# Altium schematic symbol library Regulator Linear LM317 LM337.SchLib: 9 symbols
Pins are listed as number, name and electrical type; pins without a type are passive.

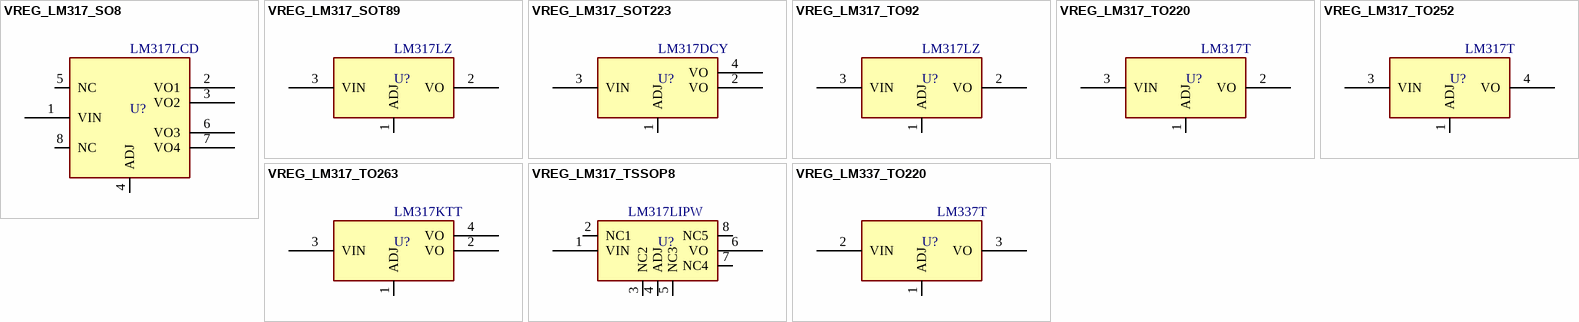
[diagram p0: symbols VREG_LM317_SO8 to VREG_LM337_TO220]

## VREG_LM317_SO8
designator U?, comment LM317LCD
REG, Linear, Adjustable, 0.1A, SO-8; MANF_P#: LM317LCDR, LM317LD13TR, LM317LMX, LM317LBDG; MANF: TI, ST, ON; PARAM: 0.1A; PARAM2: PARAM2; VALUE: LM317LCD
footprint SO_8
pins: 1 VIN, 2 VO1, 3 VO2, 4 ADJ, 5 NC, 6 VO3, 7 VO4, 8 NC

## VREG_LM317_SOT89
designator U?, comment LM317LZ
REG, Linear, Adjustable, 0.1A, SOT-89; MANF_P#: LM317LIPK, LM317LCPK; MANF: TI; PARAM: 0.1A; PARAM2: PARAM2; VALUE: LM317LZ
footprint SOT89_3 (SOT89, SOT-89, SBF-4089, SOT89A, GALI, SC-62, DF782, TO-243AA(JEDEC))
pins: 1 ADJ, 2 VO, 3 VIN

## VREG_LM317_SOT223
designator U?, comment LM317DCY
REG, Linear, Adjustable, 0.5A, SOT-223; MANF_P#: LM317DCY, LM317MBSTT3G; MANF: TI, ON; PARAM: 0.5A; PARAM2: PARAM2; VALUE: LM317DCY
footprint SOT223_4 (SOT223, 4-Leads, Body 6.5x3.5mm, Pitch 2.30mm)
pins: 1 ADJ, 2 VO, 3 VIN, 4 VO

## VREG_LM317_TO92
designator U?, comment LM317LZ
REG, Linear, Adjustable, 0.1A, TO-92; MANF: TI, ST, ON; MANF_P#: LM317LZ; PARAM: 0.1A; PARAM2: PARAM2; VALUE: LM317LZ
footprint TO92_3 (TO-92)
pins: 1 ADJ, 2 VO, 3 VIN

## VREG_LM317_TO220
designator U?, comment LM317T
REG, Linear, Adjustable, 1.5A, TO-220; MANF_P#: LM317KC, LM317T, LM317HVT, LM317BTG; MANF: TI, ST, ON; PARAM: 1.5A; PARAM2: PARAM2; VALUE: LM317T
footprint TO220_3 (TO-220 3 LEAD, TO-262, pitch: 2.54mm  10x4.5mm)
pins: 1 ADJ, 2 VO, 3 VIN

## VREG_LM317_TO252
designator U?, comment LM317T
REG, Linear, Adjustable, 0.5A, TO-252; MANF_P#: LM317MKVU, LM317MDT; MANF: TI, ST, ON; PARAM: 0.5A; PARAM2: PARAM2; VALUE: LM317T
footprint DPAK_3 (D-PAK (TO-252), 3-Pads, Body 6.2x6.7mm)
pins: 1 ADJ, 3 VIN, 4 VO

## VREG_LM317_TO263
designator U?, comment LM317KTT
REG, Linear, Adjustable, 1.5A, TO-263; MANF_P#: LM317KTT, LM317D2TR4G; MANF: TI, ON; PARAM: 1.5A; PARAM2: PARAM2; VALUE: LM317KTT
footprint D2PAK_3 (D2-PAK, 4-Pads, Body 7.6x8.6mm)
pins: 1 ADJ, 2 VO, 3 VIN, 4 VO

## VREG_LM317_TSSOP8
designator U?, comment LM317LIPW
REG, Linear, Adjustable, 0.1A, TSSOP-8; MANF_P#: LM317LIPWR, LM317LCPWR; MANF: TI; PARAM: 0.1A; PARAM2: PARAM2; VALUE: LM317LIPW
footprint SOG65_8 (PW TSSOP (TI), MO-153 (JEDEC), 8Lead, pitch: 0.65mm, 3x4.4x1.2mm)
pins: 1 VIN, 2 NC1, 3 NC2, 4 ADJ, 5 NC3, 6 VO, 7 NC4, 8 NC5

## VREG_LM337_TO220
designator U?, comment LM337T
REG, Linear, Negative, Adjustable, 1.5A, TO-220; MANF_P#: LM337SP, LM337T, LM337KCS, LM337BTG; MANF: TI, ST, ON; PARAM: 1.5A; PARAM2: PARAM2; VALUE: LM337T
footprint TO220_3 (TO-220 3 LEAD, TO-262, pitch: 2.54mm  10x4.5mm)
pins: 1 ADJ, 2 VIN, 3 VO